# Altium schematic symbol library L293DNE.SchLib: 1 symbol
Pins are listed as number, name and electrical type; pins without a type are passive.

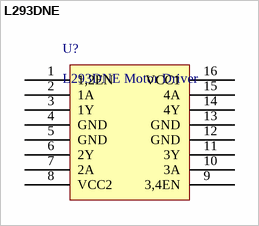
[diagram p0: symbol L293DNE]

## L293DNE
designator U?, comment L293DNE Motor Driver
TI L293DNE Quad H-bridge Motor Driver
footprint DIP16 (NE)
pins: 1 1,2EN, 2 1A, 3 1Y, 4 GND, 5 GND, 6 2Y, 7 2A, 8 VCC2, 9 3,4EN, 10 3A, 11 3Y, 12 GND, 13 GND, 14 4Y, 15 4A, 16 VCC1